# EAGLE library part ATTINY10 (library work)
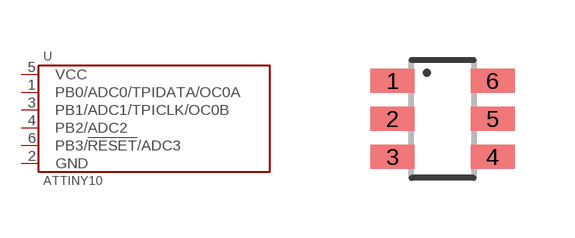
[diagram p103: symbol with the pads of SOT23-6; footprint SOT23-6]

Designator prefix U

## ATTINY10-TSHR  [SOT23-6]
1  PB0/ADC0/TPIDATA/OC0A
2  GND
3  PB1/ADC1/TPICLK/OC0B
4  PB2/ADC2
5  VCC
6  PB3/!RESET!/ADC3

## Footprint SOT23-6 (pad centres in mm)
smd 1.1 x 0.6: 1 -1.25,0.95; 2 -1.25,0; 3 -1.25,-0.95; 4 1.25,-0.95; 5 1.25,0; 6 1.25,0.95